# EAGLE library part CS4272 (library CS4272)
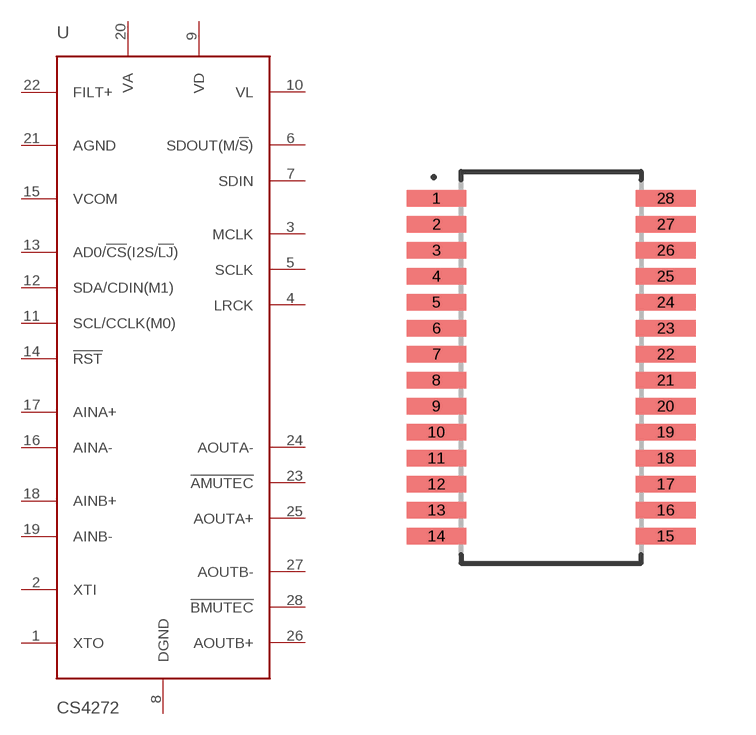
[diagram p0: symbol with the pads of SOP65P640X120-28; footprint SOP65P640X120-28]

Designator prefix U

## CS4272  [SOP65P640X120-28]
1  XTO
2  XTI
3  MCLK
4  LRCK
5  SCLK
6  SDOUT(M/!S!)  out
7  SDIN  in
8  DGND  in
9  VD  in
10  VL  in
11  SCL/CCLK(M0)  in
12  SDA/CDIN(M1)
13  AD0/!CS!(I2S/!LJ!)  in
14  !RST!  in
15  VCOM  out
16  AINA-  in
17  AINA+  in
18  AINB+  in
19  AINB-  in
20  VA  in
21  AGND
22  FILT+  out
23  !AMUTEC!  out
24  AOUTA-  out
25  AOUTA+  out
26  AOUTB+  out
27  AOUTB-  out
28  !BMUTEC!  out

## Footprint SOP65P640X120-28 (pad centres in mm)
28-SOP, 0.65 mm pitch, 6.4 mm span, 9.7 X 4.4 X 1.2 mm body 28-pin SOP package with 0.65 mm pitch, 6.4 mm span with body size 9.7 X 4.4 X 1.2 mm
smd 1.499 x 0.407: 1 -2.865,4.225; 2 -2.865,3.575; 3 -2.865,2.925; 4 -2.865,2.275; 5 -2.865,1.625; 6 -2.865,0.975; 7 -2.865,0.325; 8 -2.865,-0.325; 9 -2.865,-0.975; 10 -2.865,-1.625; 11 -2.865,-2.275; 12 -2.865,-2.925; 13 -2.865,-3.575; 14 -2.865,-4.225; 15 2.865,-4.225; 16 2.865,-3.575; 17 2.865,-2.925; 18 2.865,-2.275; 19 2.865,-1.625; 20 2.865,-0.975; 21 2.865,-0.325; 22 2.865,0.325; 23 2.865,0.975; 24 2.865,1.625; 25 2.865,2.275; 26 2.865,2.925; 27 2.865,3.575; 28 2.865,4.225